# EAGLE library part SENSORBOOM (library rs41)
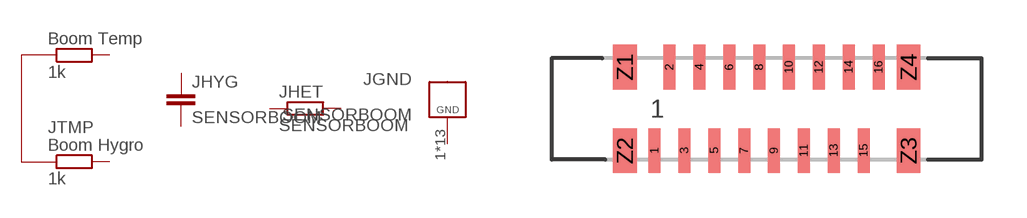
[diagram p1: symbol with the pads of 687316124422; footprint 687316124422]

Designator prefix J; gates TMP=TEMP HYG=HYGRO HET=HEATER GND=GND

## SENSORBOOM  [687316124422]
1  GND:GND
2  TMP:TEMP  pas
3  GND:GND
4  HYG:1  pas
5  GND:GND
6  HYG:2  pas
7  GND:GND
8  HET:1  pas
9  HET:2  pas
10  GND:GND
11  TMP:HYG_TEMP  pas
12  GND:GND
13  TMP:TEMP_COM  pas
14  GND:GND
15  GND:GND
16  GND:GND
Z1  GND:GND
Z2  GND:GND
Z3  GND:GND
Z4  GND:GND

## Footprint 687316124422 (pad centres in mm)
WR-FPC-0.50mm SMT ZIF Vertical Type A,pins 16
smd 0.4 x 1.5: 1 -3.75,-1.4; 2 -3.25,1.4; 3 -2.75,-1.4; 4 -2.25,1.4; 5 -1.75,-1.4; 6 -1.25,1.4; 7 -0.75,-1.4; 8 -0.25,1.4; 9 0.25,-1.4; 10 0.75,1.4; 11 1.25,-1.4; 12 1.75,1.4; 13 2.25,-1.4; 14 2.75,1.4; 15 3.25,-1.4; 16 3.75,1.4
smd 0.8 x 1.5: Z1 -4.75,1.4; Z2 -4.75,-1.4; Z3 4.75,-1.4; Z4 4.75,1.4